# Altium schematic symbol library AS7C34098.SchLib: 1 symbol
Pins are listed as number, name and electrical type; pins without a type are passive.

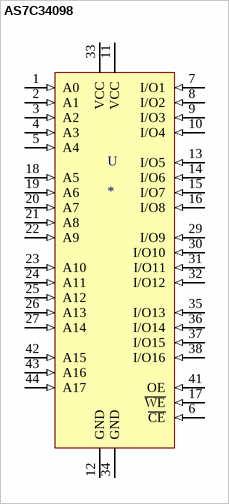
[diagram p0: symbol AS7C34098]

## AS7C34098
designator U
SRAM, 4MB, 3V, 12NS, 256K x 16, TSOP44; farnell: 1562920
footprint TSOP80P1180X120-44N (TSOP, 44-Leads, Body 18.5x10.3mm (max), Pitch 0.80mm, IPC Medium Density)
pins: 1 A0 (in), 2 A1 (in), 3 A2 (in), 4 A3 (in), 5 A4 (in), 6 ~{CE} (in), 7 I/O1 (in), 8 I/O2 (in), 9 I/O3 (in), 10 I/O4 (in), 11 VCC (power), 12 GND (power), 13 I/O5 (in), 14 I/O6 (in), 15 I/O7 (in), 16 I/O8 (in), 17 ~{WE} (in), 18 A5 (in), 19 A6 (in), 20 A7 (in), 21 A8 (in), 22 A9 (in), 23 A10 (in), 24 A11 (in), 25 A12 (in), 26 A13 (in), 27 A14 (in), 29 I/O9 (in), 30 I/O10 (in), 31 I/O11 (in), 32 I/O12 (in), 33 VCC (power), 34 GND (power), 35 I/O13 (in), 36 I/O14 (in), 37 I/O15 (in), 38 I/O16 (in), 41 OE (in), 42 A15 (in), 43 A16 (in), 44 A17 (in)